# EAGLE library part TPS6103* (library bschulz)
TPS6103x - High Efficiency Synchronous Boost Converter Characteristics: Vin: 1.8V ~ 5.5V Vout: 1.8V ~ 5.5V (Fixed 3.3v, 5v) Output Current (max): 4A IQ: 20μA (typ) Operating Temperature: -40°C to 85°C Digikey: 296-16660-1-ND (TPS61030, Adj) <https://www.digikey.com/products/en/integrated-circuits-ics/pmic-voltage-regulators-dc-dc-switching-regulators/739?k=tps61030&k=&pkeyword=tps61030&pv16=13128&sf=0&FV=ffe002e3%2C1c0002%2C1c0006&quantity=&ColumnSort=0&page=1&stock=1&pageSize=25> 296-16661-1-ND (TPS61031, 3.3v Fixed) <https://www.digikey.com/products/en/integrated-circuits-ics/pmic-voltage-regulators-dc-dc-switching-regulators/739?k=tps61031&k=&pkeyword=tps61031&pv7=2&pv7=6&pv16=13128&sf=0&FV=ffe002e3&quantity=&ColumnSort=0&page=1&stock=1&pageSize=25> 296-16662-1-ND (TPS61032, 5v Fixed) <https://www.digikey.com/products/en?keywords=296-16662-1-ND>
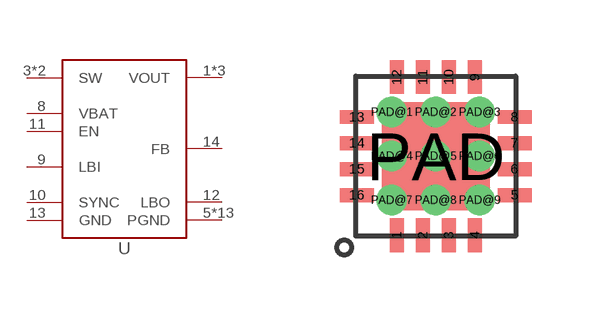
[diagram p64: symbol with the pads of RSA_S-PVQFN-N16; footprint RSA_S-PVQFN-N16]

Designator prefix U

## TPS6103RSA (DISP: TPS6103x; MF: TI), TPS61030RSA (DIGIKEY: 296-16660-1-ND; DISP: TPS61030; MF: TI; MPN: TPS61030RSAR), TPS61031RSA (DIGIKEY: 296-16661-1-ND; DISP: TPS61031; MF: TI; MPN: TPS61031RSAR), TPS61032RSA (DIGIKEY: 296-16662-1-ND; DISP: TPS61032; MF: TI; MPN: TPS61032RSAR)  [RSA_S-PVQFN-N16]
1  VOUT  pwr
3  SW  pwr
4  SW  pwr
5  PGND  pwr
6  PGND  pwr
7  PGND  pwr
8  VBAT  pwr
9  LBI  in
10  SYNC  in
11  EN  in
12  LBO  out
13  GND  pwr
14  FB  in
15  VOUT  pwr
16  VOUT  pwr
PAD  PGND  pwr
PAD@1  PGND  pwr
PAD@2  PGND  pwr
PAD@3  PGND  pwr
PAD@4  PGND  pwr
PAD@5  PGND  pwr
PAD@6  PGND  pwr
PAD@7  PGND  pwr
PAD@8  PGND  pwr
PAD@9  PGND  pwr

## Footprint RSA_S-PVQFN-N16 (pad centres in mm)
smd 0.35 x 0.85: 1 -0.975,-1.975; 2 -0.325,-1.975; 3 0.325,-1.975; 4 0.975,-1.975; 9 0.975,1.975; 10 0.325,1.975; 11 -0.325,1.975; 12 -0.975,1.975
smd 0.85 x 0.35: 5 1.975,-0.975; 6 1.975,-0.325; 7 1.975,0.325; 8 1.975,0.975; 13 -1.975,0.975; 14 -1.975,0.325; 15 -1.975,-0.325; 16 -1.975,-0.975
smd 2.7 x 2.7: PAD 0,0
drill 0.254 pad 0.305: PAD@1 -1.1,1.1; PAD@2 0,1.1; PAD@3 1.1,1.1; PAD@4 -1.1,0; PAD@5 0,0; PAD@6 1.1,0; PAD@7 -1.1,-1.1; PAD@8 0,-1.1; PAD@9 1.1,-1.1